# EAGLE library part YAC513-M (library OPL4)
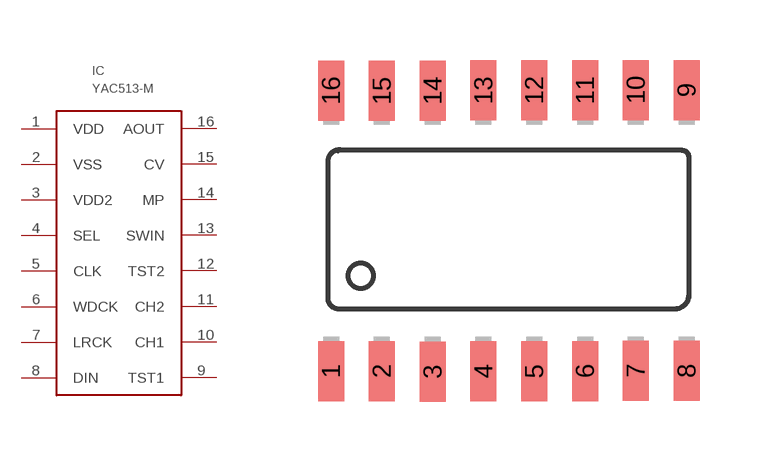
[diagram p0: symbol with the pads of 16SOP; footprint 16SOP]

Designator prefix IC

## YAC513-M  [16SOP]
1  VDD  pwr
2  VSS  pwr
3  VDD2  pwr
4  SEL  in
5  CLK  in
6  WDCK  in
7  LRCK  in
8  DIN  in
9  TST1  in
10  CH1  out
11  CH2  out
12  TST2  in
13  SWIN  in
14  MP  in
15  CV  in
16  AOUT  out

## Footprint 16SOP (pad centres in mm)
smd 0.65 x 1.5: 1 0.2,-0.86; 2 1.47,-0.86; 3 2.74,-0.87; 4 4.01,-0.86; 5 5.28,-0.86; 6 6.55,-0.86; 7 7.82,-0.85; 8 9.09,-0.85; 9 9.09,6.17; 10 7.82,6.17; 11 6.55,6.16; 12 5.28,6.16; 13 4.01,6.16; 14 2.74,6.15; 15 1.47,6.15; 16 0.2,6.15